# EAGLE library part CH340G (library STMBerry)
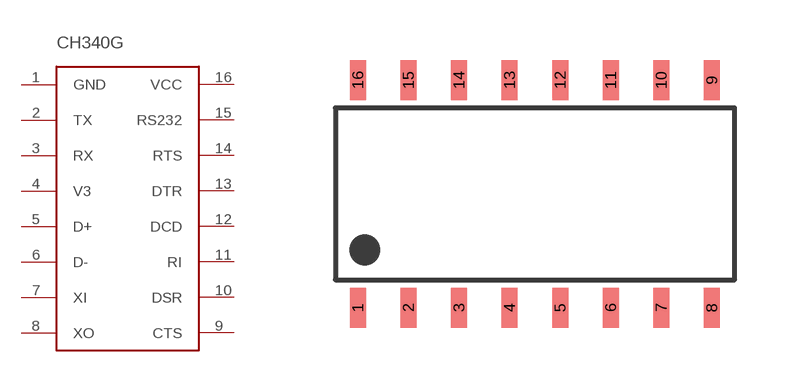
[diagram p1: symbol with the pads of SOP-16; footprint SOP-16]

Designator prefix -

## CH340G  [SOP-16]
1  GND
2  TX
3  RX
4  V3
5  D+
6  D-
7  XI
8  XO
9  CTS
10  DSR
11  RI
12  DCD
13  DTR
14  RTS
15  RS232
16  VCC

## Footprint SOP-16 (pad centres in mm)
smd 0.4 x 1: 1 -4.425,-2.845; 2 -3.16,-2.845; 3 -1.895,-2.845; 4 -0.63,-2.845; 5 0.635,-2.845; 6 1.9,-2.845; 7 3.165,-2.845; 8 4.43,-2.845; 9 4.43,2.855; 10 3.165,2.855; 11 1.9,2.855; 12 0.635,2.855; 13 -0.63,2.855; 14 -1.895,2.855; 15 -3.16,2.855; 16 -4.425,2.855